# Altium footprint library rx.PcbLib: 1 footprints
Each footprint in its own frame and in the unit in brackets; x right, y up, seen from the top. Pads: shape width x height; smd on the part's side, far side on the other; paste and mask are expansions set on the pad; w line width, h text height; cw(c..) or ccw(c..) is an arc to the next point about the centre after c.
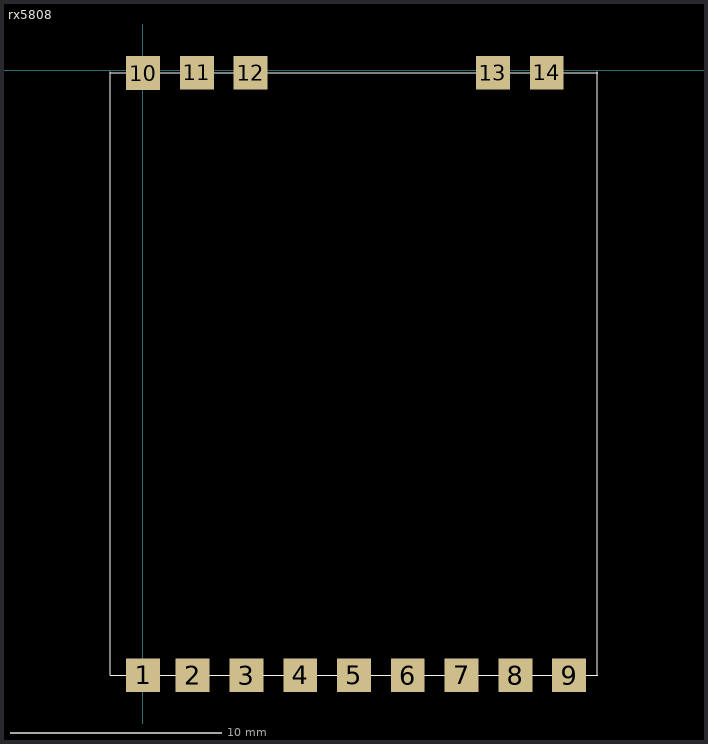
[diagram p0: the footprint, top view; thin cyan lines are the x and y axes]

## rx5808 [mm]
pads (14):
  rect 1.6x1.6 all layers, no hole: 1(0.016,-28.575) 2(2.356,-28.575) 3(4.896,-28.575) 4(7.436,-28.575) 5(9.976,-28.575) 6(12.516,-28.575) 7(15.056,-28.575) 8(17.596,-28.575) 9(20.136,-28.575) 10(0.016,-0.143) 11(2.556,-0.127) 12(5.096,-0.127) 13(16.536,-0.127) 14(19.076,-0.127)
Top Overlay:
  lines w0.01: -1.524,-0.127 21.476,-0.127 ; -1.524,-0.075 -1.524,-28.575 21.476,-28.575 ; 21.463,-28.575 21.463,-0.075